# Altium schematic symbol library Inductors.SchLib: 2 symbols
Pins are listed as number, name and electrical type; pins without a type are passive.

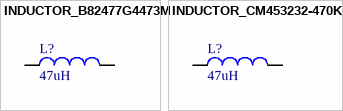
[diagram p0: symbols INDUCTOR_B82477G4473M to INDUCTOR_CM453232-470KL]

## INDUCTOR_B82477G4473M
designator L?, comment 47uH
47 мкГн, 2.5 А, 12.8х12.8, Катушка индуктивности SMD
footprint INDUCTOR_B82477G
pins: 1, 2

## INDUCTOR_CM453232-470KL
designator L?, comment 47uH
1812, Индуктивность SMD
footprint INDUCTOR_1812
pins: 1, 2